# EAGLE library part TPS63030 (library Eagle CMR)
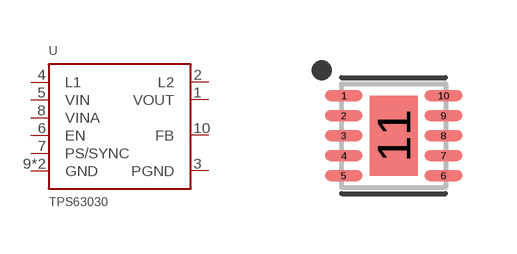
[diagram p28: symbol with the pads of SON50P250X250X80-11T120X200M; footprint SON50P250X250X80-11T120X200M]

Designator prefix U

## TPS63030  [SON50P250X250X80-11T120X200M]
1  VOUT  pwr
2  L2
3  PGND  pwr
4  L1
5  VIN  pwr
6  EN
7  PS/SYNC
8  VINA  pwr
9  GND  pwr
10  FB
11  GND  pwr

## Footprint SON50P250X250X80-11T120X200M (pad centres in mm)
10-SON (DFN), 0.50 mm pitch, 2.50 X 2.50 X 0.80 mm body, 2.00 X 1.20 mm thermal pad 10-pin SON (DFN) package with 0.50 mm pitch with body size 2.50 X 2.50 X 0.80 mm and thermal pad size 2.00 X 1.20 mm
smd 0.938 x 0.27: 1 -1.246,1; 2 -1.246,0.5; 3 -1.246,0; 4 -1.246,-0.5; 5 -1.246,-1; 6 1.246,-1; 7 1.246,-0.5; 8 1.246,0; 9 1.246,0.5; 10 1.246,1
smd 1.2 x 2: 11 0,0